# EAGLE library part VREG_TPS6103X (library Adafruit PowerBoost 1000C Rev B)
TPS6103x 4A Boost - 1.8-5.5V Input, Adjustable Output to 5.5V
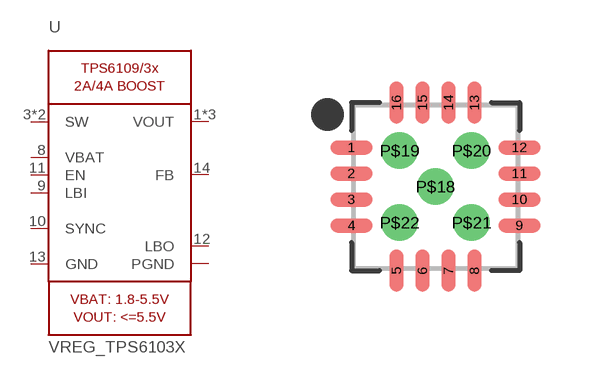
[diagram p2: symbol with the pads of PVQFN-16; footprint PVQFN-16]

Designator prefix U

## VREG_TPS6103X  [PVQFN-16]
1  VOUT  pwr
3  SW  in
4  SW  in
8  VBAT  in
9  LBI  in
10  SYNC  in
11  EN  in
12  LBO  out
13  GND  pwr
14  FB  in
15  VOUT  pwr
16  VOUT  pwr

## Footprint PVQFN-16 (pad centres in mm)
smd 1.05 x 0.35: 1 -2.1,0.975; 2 -2.1,0.325; 3 -2.1,-0.325; 4 -2.1,-0.975; 9 2.1,-0.975; 10 2.1,-0.325; 11 2.1,0.325; 12 2.1,0.975
smd 0.35 x 1.05: 5 -0.975,-2.1; 6 -0.325,-2.1; 7 0.325,-2.1; 8 0.975,-2.1; 13 0.975,2.1; 14 0.325,2.1; 15 -0.325,2.1; 16 -0.975,2.1
drill 0.4: P$18 0,0; P$19 -0.9,0.9; P$20 0.9,0.9; P$21 0.9,-0.9; P$22 -0.9,-0.9